# Altium integrated library Analog Devices Data Converters Analog-to-Digital Converters.IntLib: 2404 symbols (part 94 of 346)
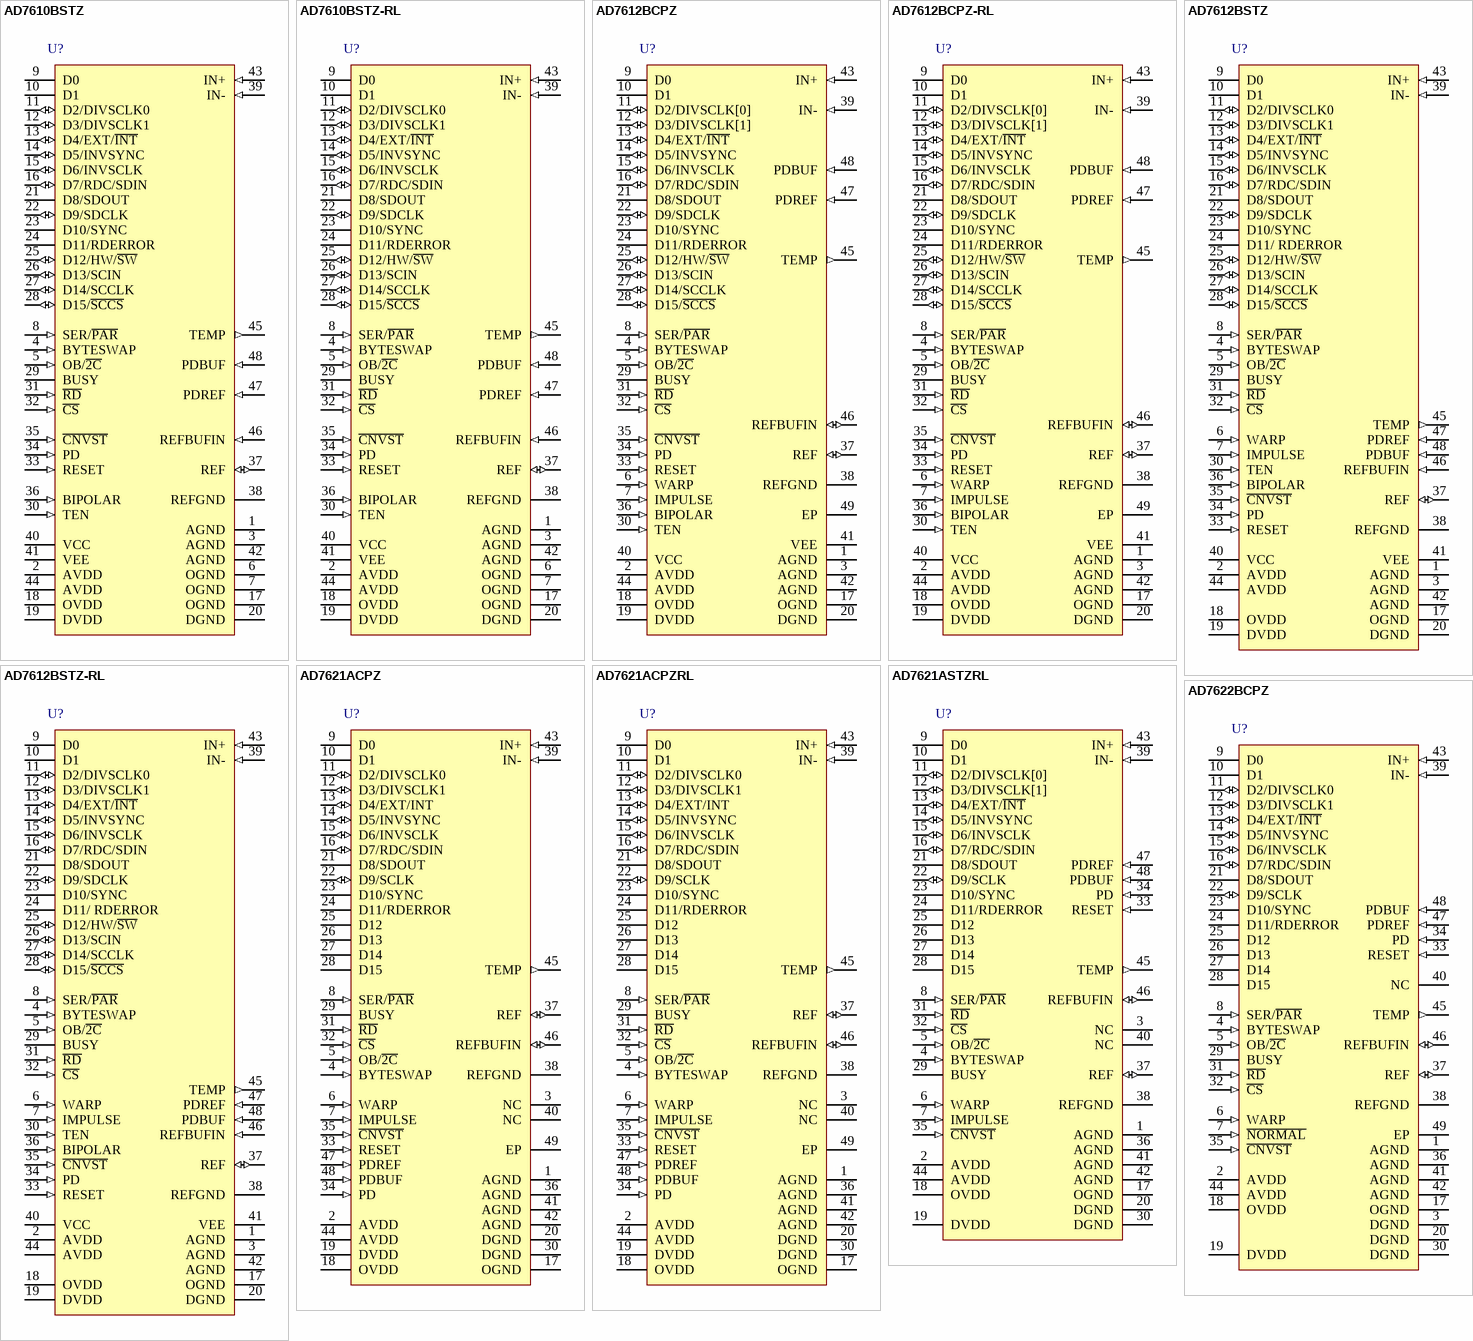
[diagram p207: symbols AD7610BSTZ to AD7622BCPZ]

## AD7621ACPZRL
designator U?
Single 16-Bit PulSAR Analog-to-Digital Converter with Byte, Parallel, Serial, SPI Interface, 3MSPS, -40 to +85 degC, CP-48-1, Pb-Free, Reel; Generic Part Number: AD7621; Manufacturer: Analog Devices; PartNumber: AD7621ACPZRL; Resolution (Bits): 16; Channels: 1; Throughput Rate (SPS): 3M; Interface: Byte, Par, Ser, SPI; DatasheetVersion: Rev.0; PackageVersion: Jan-2005; PackageReference: CP-48-1; PackageDescription: 48-Lead Lead Frame Chip Scale Package [LFCSP_VQ] 7 x 7 mm Body, Very Thin Quad; Supplier 1: Digi-Key; Supplier Part Number 1: AD7621ACPZRL-ND; Supplier 2: Mouser; Supplier Part Number 2: 584-AD7621ACPZR; RoHS: Y; Packing: Reel; Mounting Technology: Surface Mount; Code_JEDEC: MO-220-VKKD-2; ComponentLink1Description: Manufacturer URL; ComponentLink1URL: http://www.analog.com/en/index.html; ComponentLink2Description: Datasheet; ComponentLink2URL: http://www.analog.com/static/imported-files/data_sheets/AD7621.pdf; ComponentLink3Description: Package Specification; ComponentLink3URL: http://www.analog.com/static/imported-files/packages/PKG_PDF/LFCSP(CP)/CP-48/CP_48_1.pdf; ComponentLink4Description: Product URL; ComponentLink4URL: http://www.analog.com/en/analog-to-digital-converters/ad-converters/ad7621/products/product.html
footprint CP-48-1_N (QFN, 48-Leads, Body 7x7mm, Pitch 0.5mm, Thermal Pad 5.1x5.1mm, IPC Medium Density)
footprint CP-48-1_L (QFN, 48-Leads, Body 7x7mm, Pitch 0.5mm, Thermal Pad 5.1x5.1mm, IPC High Density)
footprint CP-48-1_M (QFN, 48-Leads, Body 7x7mm, Pitch 0.5mm, Thermal Pad 5.1x5.1mm, IPC Low Density)
pins: 1 AGND (power) "Analog Power Ground Pin.", 2 AVDD (power) "Input Analog Power Pins. Nominally 2.5 V.", 3 NC "No Connect.", 4 BYTESWAP (in) "Parallel Mode Selection (8-Bit/16-Bit). When high, the LSB is output on D[15:8] and the MSB is output on D[7:0]; when low, the LSB is output on D[7:0] and the MSB is output on D[15:8].", 5 OB/~{2C} (in) "Straight Binary/Binary Twos Complement Output. When high, the digital output is straight binary; when low, the MSB is inverted resulting in a twos complement output from its internal shift register.", 6 WARP (in) "Conversion Mode Selection. When WARP = high and IMPULSE = high, this selects wideband mode with slightly improved linearity and THD. When WARP = high and IMPULSE = low, this selects warp mode. In either mode, these are the (See Datasheet)", 7 IMPULSE (in) "Conversion Mode Selection. When IMPULSE = high and WARP = low, this input selects impulse mode, a reduced power mode. In this mode, the power dissipation is approximately proportional to the sampling rate.", 8 SER/~{PAR} (in) "Serial/Parallel Selection Input. When high, the serial interface is selected and some bits of the data bus are used as a serial port; the remaining data bits are high impedance outputs. When SER/P\A\R\ = low, the parallel (See Datasheet)", 9 D0 (hiz) "Bit 0 and Bit 1 of the Parallel Port Data Output Bus.", 10 D1 (hiz) "Bit 0 and Bit 1 of the Parallel Port Data Output Bus.", 11 D2/DIVSCLK0 (io) "When SER/P\A\R\ = low, these outputs are used as Bit 2 and Bit 3 of the parallel port data output bus. When SER/P\A\R\ = high, serial clock division selection. When using serial master read after convert mode (EXT/I\N\T\ = (See Datasheet)", 12 D3/DIVSCLK1 (io) "When SER/P\A\R\ = low, these outputs are used as Bit 2 and Bit 3 of the parallel port data output bus. When SER/P\A\R\ = high, serial clock division selection. When using serial master read after convert mode (EXT/I\N\T\ = (See Datasheet)", 13 D4/EXT/INT (io) "When SER/P\A\R\ = low, this output is used as Bit 4 of the parallel port data output bus. When SER/P\A\R\ = high, serial clock source select. This input is used to select the internally generated (master ) or external (See Datasheet)", 14 D5/INVSYNC (io) "When SER/P\A\R\ = low this output is used as Bit 5 of the parallel port data output bus. When SER/P\A\R\ = high, invert sync select. In serial master mode (EXT/I\N\T\ = low), this input is used to select the active state of (See Datasheet)", 15 D6/INVSCLK (io) "When SER/P\A\R\ = low this output is used as Bit 6 of the parallel port data output bus. Invert SCLK Select. In all serial modes, this input is used to invert the SCLK signal.", 16 D7/RDC/SDIN (io) "Bit 7 of the Parallel Port Data Output Bus. When SER/P\A\R\ = high, read during convert. When using Serial Master mode (EXT/I\N\T\ = low), RDC is used to select the read mode. When RDC = high, the previous conversion result (See Datasheet)", 17 OGND (power) "Input/Output Interface Digital Power Ground.", 18 OVDD (power) "Input/Output Interface Digital Power. Nominally at the same supply as the supply of the host interface (2.5 V or 3 V).", 19 DVDD (power) "Digital Power. Nominally at 2.5 V.", 20 DGND (power) "Digital Power Ground.", 21 D8/SDOUT (hiz) "When SER/P\A\R\ = low this output is used as Bit 8 of the parallel port data output bus. When SER/P\A\R\ = high, serial data output. In serial mode, this pin is used as the serial data output synchronized to SCLK. Conversion (See Datasheet)", 22 D9/SCLK (io) "Parallel Port Data Output Bus Bit 9. When SER/P\A\R\ = low, this output is used as Bit 9 of the parallel port data output bus. Serial Clock. When SER/P\A\R\ = high, serial clock. In all serial modes, this pin is used as the (See Datasheet)", 23 D10/SYNC (hiz) "When SER/P\A\R\ = low, this output is used as Bit 10 of the parallel port data output bus. When SER/P\A\R\ = high, frame synchronization. In serial master mode (EXT/I\N\T\= low), this output is used as a digital output frame (See Datasheet)", 24 D11/RDERROR (hiz) "Parallel Port Data Output Bus Bit 11. When SER/P\A\R\ = low, this output is used as Bit 11 of the parallel port data output bus. Read Error. When SER/P\A\R\ = high, read error. In serial slave mode (EXT/I\N\T\ = high), this (See Datasheet)", 25 D12 (hiz) "Bit 12 to Bit 15 of the Parallel Port Data Output Bus.", 26 D13 (hiz) "Bit 12 to Bit 15 of the Parallel Port Data Output Bus.", 27 D14 (hiz) "Bit 12 to Bit 15 of the Parallel Port Data Output Bus.", 28 D15 (hiz) "Bit 12 to Bit 15 of the Parallel Port Data Output Bus.", 29 BUSY (hiz) "Busy Output. Transitions high when a conversion is started, and remains high until the conversion is complete and the data is latched into the on-chip shift register. The falling edge of BUSY can be used as a data ready (See Datasheet)", 30 DGND (power) "Digital Power Ground.", 31 ~{RD} (in) "Read Data. When C\S\ and R\D\ are both low, the interface parallel or serial output bus is enabled.", 32 ~{CS} (in) "Chip Select. When C\S\ and R\D\ are both low, the interface parallel or serial output bus is enabled. C\S\ is also used to gate the external clock in slave serial mode.", 33 RESET (in) "Reset Input. When high, reset the AD7621. Current conversion if any is aborted. Falling edge of RESET enables the calibration mode indicated by pulsing BUSY high. Refer to the Digital Interface section. If not used, this pin (See Datasheet)", 34 PD (in) "Power-Down Input. When high, power down the ADC. Power consumption is reduced and conversions are inhibited after the current one is completed.", 35 ~{CNVST} (in) "Conversion Start. A falling edge on C\N\V\S\T\ puts the internal sample-and-hold into the hold state and initiates a conversion.", 36 AGND (power) "Analog Power Ground Pin.", 37 REF (io) "Reference Output/Input. When PDREF/PDBUF = low, the internal reference and buffer are enabled producing 2.048 V on this pin. When PDREF/PDBUF = high, the internal reference and buffer are disabled allowing an externally (See Datasheet)", 38 REFGND (power) "Reference Input Analog Ground.", 39 IN- (in) "Differential Negative Analog Input.", 40 NC "No Connect.", 41 AGND (power) "Analog Power Ground Pin.", 42 AGND (power) "Analog Power Ground Pin.", 43 IN+ (in) "Differential Positive Analog Input.", 44 AVDD (power) "Input Analog Power Pins. Nominally 2.5 V.", 45 TEMP (out) "Temperature Sensor Analog Output.", 46 REFBUFIN (io) "Internal Reference Output/Reference Buffer Input. When PDREF/PDBUF = low, the internal reference and buffer are enabled producing the 1.2 V (typical) bandgap output on this pin, which needs external decoupling. The internal (See Datasheet)", 47 PDREF (in) "Internal Reference Power-Down Input. When low, the internal reference is enabled. When high, the internal reference is powered down and an external reference must been used.", 48 PDBUF (in) "Internal Reference Buffer Power-Down Input. When low, the buffer is enabled (must be low when using internal reference). When high, the buffer is powered-down.", 49 EP (power) "Paddle connected to gnd. This connection is not required to meet the electrical performances."

## AD7621ASTZRL
designator U?
Single 16-Bit PulSAR Analog-to-Digital Converter with Byte, Parallel, Serial, SPI Interface, 3MSPS, -40 to +85 degC, ST-48, Pb-Free, Reel; Generic Part Number: AD7621; Manufacturer: Analog Devices; PartNumber: AD7621ASTZRL; Resolution (Bits): 16; Channels: 1; Throughput Rate (SPS): 3M; Interface: Byte, Par, Ser, SPI; DatasheetVersion: Rev.0; PackageVersion: revA; PackageReference: ST-48; PackageDescription: 48-Pin Thin Quad Flat Pack 0.5 mm Pitch; Supplier 1: Digi-Key; Supplier Part Number 1: AD7621ASTZRL-ND; Supplier 2: Newark; Supplier Part Number 2: 59K5112; Supplier 3: Mouser; Supplier Part Number 3: 584-AD7621ASTZR; RoHS: Y; Packing: Reel; Mounting Technology: Surface Mount; ComponentLink1Description: Manufacturer URL; ComponentLink1URL: http://www.analog.com/en/index.html; ComponentLink2Description: Datasheet; ComponentLink2URL: http://www.analog.com/static/imported-files/data_sheets/AD7621.pdf; ComponentLink3Description: Package Specification; ComponentLink3URL: http://www.analog.com/static/imported-files/packages/PKG_PDF/LQFP%28ST%29/ST_48.pdf; ComponentLink4Description: Product URL; ComponentLink4URL: http://www.analog.com/en/analog-to-digital-converters/ad-converters/ad7621/products/product.html
footprint ST-48_N (Thin QFP, 48-Leads, Body 7x7mm, Pitch 0.5mm, IPC Medium Density)
footprint ST-48_L (Thin QFP, 48-Leads, Body 7x7mm, Pitch 0.5mm, IPC High Density)
footprint ST-48_M (Thin QFP, 48-Leads, Body 7x7mm, Pitch 0.5mm, IPC Low Density)
pins: 1 AGND (power) "Analog Power Ground Pin.", 2 AVDD (power) "Input Analog Power Pins. Nominally 2.5 V.", 3 NC "No Connect.", 4 BYTESWAP (in) "Parallel Mode Selection (8-Bit/16-Bit). When high, the LSB is output on D[15:8] and the MSB is output on D[7:0]; when low, the LSB is output on D[7:0] and the MSB is output on D[15:8].", 5 OB/~{2C} (in) "Straight Binary/Binary Twos Complement Output. When high, the digital output is straight binary; when low, the MSB is inverted resulting in a twos complement output from its internal shift register.", 6 WARP (in) "Conversion Mode Selection. When WARP = high and IMPULSE = high, this selects wideband mode with slightly improved linearity and THD. When WARP = high and IMPULSE = low, this selects warp mode. In either mode, these are the (See Datasheet)", 7 IMPULSE (in) "Conversion Mode Selection. When IMPULSE = high and WARP = low, this input selects impulse mode, a reduced power mode. In this mode, the power dissipation is approximately proportional to the sampling rate.", 8 SER/~{PAR} (in) "Serial/Parallel Selection Input. When high, the serial interface is selected and some bits of the data bus are used as a serial port; the remaining data bits are high impedance outputs. When SER/PAR = low, the parallel port (See Datasheet)", 9 D0 (hiz) "Bit 0 of the Parallel Port Data Output Bus.", 10 D1 (hiz) "Bit 1 of the Parallel Port Data Output Bus.", 11 D2/DIVSCLK[0] (io) "When SER/P\A\R\= low, these outputs are used as Bit 2 and Bit 3 of the parallel port data output bus.When SER/P\A\R\ = high, serial clock division selection. When using serial master read after convert mode (EXT/I\N\T\ = (See Datasheet)", 12 D3/DIVSCLK[1] (io) "When SER/P\A\R\= low, these outputs are used as Bit 2 and Bit 3 of the parallel port data output bus.When SER/P\A\R\ = high, serial clock division selection. When using serial master read after convert mode (EXT/I\N\T\ = (See Datasheet)", 13 D4/EXT/~{INT} (io) "When SER/P\A\R\ = low, this output is used as Bit 4 of the parallel port data output bus.  When SER/P\A\R\ = high, serial clock source select. This input is used to select the internally generated (master ) or external (See Datasheet)", 14 D5/INVSYNC (io) "When SER/P\A\R\ = low this output is used as Bit 5 of the parallel port data output bus.When SER/P\A\R\ = high, invert sync select. In serial master mode (EXT/I\N\T\ = low), this input is used to select the active state of (See Datasheet)", 15 D6/INVSCLK (io) "When SER/P\A\R\ = low this output is used as Bit 6 of the parallel port data output bus. Invert SCLK Select. In all serial modes, this input is used to invert the SCLK signal.", 16 D7/RDC/SDIN (io) "Bit 7 of the Parallel Port Data Output Bus.  When SER/P\A\R\= high, read during convert. When using Serial Master mode (EXT/I\N\T\ = low), RDC is used to select the read mode When RDC = high, the previous conversion result (See Datasheet)", 17 OGND (power) "Input/Output Interface Digital Power Ground.", 18 OVDD (power) "Input/Output Interface Digital Power. Nominally at the same supply as the supply of the host interface (2.5 V or 3 V).", 19 DVDD (power) "Digital Power. Nominally at 2.5 V.", 20 DGND (power) "Digital Power Ground.", 21 D8/SDOUT (hiz) "When SER/P\A\R\ = low this output is used as Bit 8 of the parallel port data output bus. When SER/P\A\R\ = high, serial data output. In serial mode, this pin is used as the serial data output synchronized to SCLK. Conversion (See Datasheet)", 22 D9/SCLK (io) "Parallel Port Data Output Bus Bit 9. When SER/P\A\R\ = low, this output is used as Bit 9 of the parallel port data output bus.Serial Clock. When SER/P\A\R\ = high, serial clock. In all serial modes, this pin is used as the (See Datasheet)", 23 D10/SYNC (hiz) "When SER/P\A\R\ = low, this output is used as Bit 10 of the parallel port data output bus.When SER/P\A\R\ = high, frame synchronization. In serial master mode (EXT/I\N\T\= low), this output is used as a digital output frame (See Datasheet)", 24 D11/RDERROR (hiz) "Parallel Port Data Output Bus Bit 11. When SER/P\A\R\ = low, this output is used as Bit 11 of the parallel port data output bus.Read Error. When SER/P\A\R\ = high, read error. In serial slave mode (EXT/I\N\T\ = high), this (See Datasheet)", 25 D12 (hiz) "Bit 12 to Bit 15 of the Parallel Port Data Output Bus.", 26 D13 (hiz) "Bit 12 to Bit 15 of the Parallel Port Data Output Bus.", 27 D14 (hiz) "Bit 12 to Bit 15 of the Parallel Port Data Output Bus.", 28 D15 (hiz) "Bit 12 to Bit 15 of the Parallel Port Data Output Bus.", 29 BUSY (hiz) "Busy Output. Transitions high when a conversion is started, and remains high until the conversion is complete and the data is latched into the on-chip shift register. The falling edge of BUSY can be used as a data ready (See Datasheet)", 30 DGND (power) "Digital Power Ground.", 31 ~{RD} (in) "Read Data. When C\S\ and R\D\ are both low, the interface parallel or serial output bus is enabled.", 32 ~{CS} (in) "Chip Select. When C\S\ and R\D\ are both low, the interface parallel or serial output bus is enabled. C\S\ is also used to gate the external clock in slave serial mode.", 33 RESET (in) "Reset Input. When high, reset the AD7621. Current conversion if any is aborted. Falling edge of RESET enables the calibration mode indicated by pulsing BUSY high. Refer to the Digital Interface section. If not used, this pin (See Datasheet)", 34 PD (in) "Power-Down Input. When high, power down the ADC. Power consumption is reduced and conversions are inhibited after the current one is completed.", 35 ~{CNVST} (in) "Conversion Start. A falling edge on C\N\V\S\T\ puts the internal sample-and-hold into the hold state and initiates a conversion.", 36 AGND (power) "Analog Power Ground Pin.", 37 REF (io) "Reference Output/Input. When PDREF/PDBUF = low, the internal reference and buffer are enabled producing 2.048 V on this pin. When PDREF/PDBUF = high, the internal reference and buffer are disabled allowing an externally (See Datasheet)", 38 REFGND (power) "Reference Input Analog Ground.", 39 IN- (in) "Differential Positive Analog Input.", 40 NC "No Connect.", 41 AGND (power) "Analog Power Ground Pin.", 42 AGND (power) "Analog Power Ground Pin.", 43 IN+ (in) "Differential Positive Analog Input.", 44 AVDD (power) "Input Analog Power Pins. Nominally 2.5 V.", 45 TEMP (out) "Temperature Sensor Analog Output.", 46 REFBUFIN (io) "Internal Reference Output/Reference Buffer Input When PDREF/PDBUF = low, the internal reference and buffer are enabled producing the 1.2 V (typical) bandgap output on this pin, which needs external decoupling. The internal (See Datasheet)", 47 PDREF (in) "Internal Reference Power-Down Input.When low, the internal reference is enabled.When high, the internal reference is powered down and an external reference must been used.", 48 PDBUF (in) "Internal Reference Buffer Power-Down Input. When low, the buffer is enabled (must be low when using internal reference). When high, the buffer is powered-down."

## AD7622BCPZ
designator U?
Single 16-Bit PulSAR Analog-to-Digital Converter with Byte, Parallel, Serial, SPI Interface, 2MSPS, -40 to +85 degC, CP-48-1, Pb-Free, Tray; Generic Part Number: AD7622; Manufacturer: Analog Devices; PartNumber: AD7622BCPZ; Resolution (Bits): 16; Channels: 1; Throughput Rate (SPS): 2M; Interface: Byte, Par, Ser, SPI; DatasheetVersion: Rev.0; PackageVersion: Jan-2005; PackageReference: CP-48-1; PackageDescription: 48-Lead Lead Frame Chip Scale Package [LFCSP_VQ] 7 x 7 mm Body, Very Thin Quad; Supplier 1: Digi-Key; Supplier Part Number 1: AD7622BCPZ-ND; Supplier 2: Newark; Supplier Part Number 2: 19M1191; Supplier 3: Mouser; Supplier Part Number 3: 584-AD7622BCPZ; RoHS: Y; Packing: Tray; Mounting Technology: Surface Mount; Code_JEDEC: MO-220-VKKD-2; ComponentLink1Description: Manufacturer URL; ComponentLink1URL: http://www.analog.com/en/index.html; ComponentLink2Description: Datasheet; ComponentLink2URL: http://www.analog.com/static/imported-files/data_sheets/AD7622.pdf; ComponentLink3Description: Package Specification; ComponentLink3URL: http://www.analog.com/static/imported-files/packages/PKG_PDF/LFCSP(CP)/CP-48/CP_48_1.pdf; ComponentLink4Description: Product URL; ComponentLink4URL: http://www.analog.com/en/analog-to-digital-converters/ad-converters/ad7622/products/product.html
footprint CP-48-1_N (QFN, 48-Leads, Body 7x7mm, Pitch 0.5mm, Thermal Pad 5.1x5.1mm, IPC Medium Density)
footprint CP-48-1_L (QFN, 48-Leads, Body 7x7mm, Pitch 0.5mm, Thermal Pad 5.1x5.1mm, IPC High Density)
footprint CP-48-1_M (QFN, 48-Leads, Body 7x7mm, Pitch 0.5mm, Thermal Pad 5.1x5.1mm, IPC Low Density)
pins: 1 AGND (power) "Analog Power Ground.", 2 AVDD (power) "Input Analog Power Pins. Nominally 2.5 V", 3 DGND (power) "Digital Power Ground.", 4 BYTESWAP (in) "Parallel Mode Selection (8-Bit/16-Bit). When high, the LSB is output on D[15:8] and the MSB is output  on D[7:0]; when low, the LSB is output on D[7:0] and the MSB is output on D[15:8].", 5 OB/~{2C} (in) "Straight Binary/Binary Twos Complement Output. When high, the digital output is straight binary;  when low, the MSB is inverted resulting in a twos complement output from its internal shift register.", 6 WARP (in) "Conversion Mode Selection. When WARP = high and N\O\R\M\A\L\ = high, this selects wideband warp mode with slightly improved linearity and THD. When WARP = high and N\O\R\M\A\L\ = low, this selects  warp mode. In either mode, (See Datasheet)", 7 ~{NORMAL} (in) "Conversion Mode Selection. When N\O\R\M\A\L\ = low and WARP = low, this input selects normal mode where full accuracy is maintained independent of the minimum conversion rate.", 8 SER/~{PAR} (in) "Serial/Parallel Selection Input. When SER/P\A\R\ = high, the serial interface is selected and some bits of the data bus are used as a  serial port; the remaining data bits are high impedance outputs. When SER/P\A\R\ = low, (See Datasheet)", 9 D0 (hiz) "Bit 0 of the Parallel Port Data Output Bus. These pins are always outputs, regardless of  the interface mode.", 10 D1 (hiz) "Bit 1 of the Parallel Port Data Output Bus. These pins are always outputs, regardless of  the interface mode.", 11 D2/DIVSCLK0 (io) "When SER/P\A\R\ = low, these outputs are used as Bit 2 of the parallel port data output bus. When SER/P\A\R\ = high, serial clock division selection. When using serial master read after convert mode (EXT/I\N\T\ = low, (See Datasheet)", 12 D3/DIVSCLK1 (io) "When SER/P\A\R\ = low, these outputs are used as Bit 3 of the parallel port data output bus. When SER/P\A\R\ = high, serial clock division selection. When using serial master read after convert mode (EXT/I\N\T\ = low, (See Datasheet)", 13 D4/EXT/~{INT} (io) "When SER/P\A\R\ = low, this output is used as Bit 4 of the parallel port data output bus.  When SER/P\A\R\ = high, serial clock source select. This input is used to select the internally generated (master) or external (See Datasheet)", 14 D5/INVSYNC (io) "When SER/P\A\R\ = low, this output is used as Bit 5 of the parallel port data output bus. When SER/P\A\R\ = high, invert sync select. In serial master mode (EXT/I\N\T\ = low), this input is used  to select the active state (See Datasheet)", 15 D6/INVSCLK (io) "When SER/P\A\R\ = low, this output is used as Bit 6 of the parallel port data output bus. When SER/P\A\R\ = high, invert SCLK select. In all serial modes, this input is used to  invert the SCLK signal.", 16 D7/RDC/SDIN (io) "When SER/P\A\R\ = low, this output is used as bit 7 of the parallel port data output bus.  When SER/P\A\R\ = high, read during convert. When using serial master mode (EXT/I\N\T\ = low),  RDC is used to select the read mode. (See Datasheet)", 17 OGND (power) "Input/Output Interface Digital Power Ground.", 18 OVDD (power) "Input/Output Interface Digital Power. Nominally at the same supply as the supply of the  host interface (2.5 V or 3 V).", 19 DVDD (power) "Digital Power. Nominally at 2.5 V.", 20 DGND (power) "Digital Power Ground.", 21 D8/SDOUT (hiz) "When SER/P\A\R\ = low, this output is used as Bit 8 of the parallel port data output bus. When SER/P\A\R\ = high, serial data output. In serial mode, this pin is used as the serial data output synchronized to SCLK. (See Datasheet)", 22 D9/SCLK (io) "When SER/P\A\R\ = low, this output is used as Bit 9 of the parallel port data output bus. When SER/P\A\R\ = high, serial clock. In all serial modes, this pin is used as the serial  data clock input or output, depending upon (See Datasheet)", 23 D10/SYNC (hiz) "When SER/P\A\R\ = low, this output is used as Bit 10 of the parallel port data output bus. When SER/P\A\R\ = high, frame synchronization. In serial master mode (EXT/I\N\T\= low),  this output is used as a digital output (See Datasheet)", 24 D11/RDERROR (hiz) "When SER/P\A\R\ = low, this output is used as Bit 11 of the parallel port data output bus. When SER/P\A\R\ = high, read error. In serial slave mode (EXT/I\N\T\ = high), this output  is used as an incomplete read error flag. (See Datasheet)", 25 D12 (hiz) "Bit 12 of the parallel port data output bus. These pins are always outputs, regardless of  the interface mode.", 26 D13 (hiz) "Bit 13 of the parallel port data output bus. These pins are always outputs, regardless of  the interface mode.", 27 D14 (hiz) "Bit 14 of the parallel port data output bus. These pins are always outputs, regardless of  the interface mode.", 28 D15 (hiz) "Bit 15 of the parallel port data output bus. These pins are always outputs, regardless of  the interface mode.", 29 BUSY (hiz) "Busy Output. Transitions high when a conversion is started and remains high until the conversion  is complete and the data is latched into the on-chip shift register. The falling edge of BUSY can be  used as a data-ready (See Datasheet)", 30 DGND (power) "Digital Power Ground.", 31 ~{RD} (in) "Read Data. When C\S\ and R\D\ are both low, the interface parallel or serial output bus is enabled.", 32 ~{CS} (in) "Chip Select. When C\S\ and R\D\ are both low, the interface parallel or serial output bus is enabled.  C\S\ is also used to gate the external clock in slave serial mode.", 33 RESET (in) "Reset Input. When high, resets the AD7622. Current conversion, if any, is aborted. Falling edge of  RESET enables the calibration mode indicated by pulsing BUSY high. Refer to the RESET section.  If not used, this pin can be (See Datasheet)", 34 PD (in) "Power-Down Input. When high, power downs the ADC. Power consumption is reduced and  conversions are inhibited after the current one is completed.", 35 ~{CNVST} (in) "Conversion Start. A falling edge on C\N\V\S\T\ puts the internal sample-and-hold into the hold state  and initiates a conversion.", 36 AGND (power) "Analog Power Ground.", 37 REF (io) "Reference Output/Input.  When PDREF/PDBUF = low, the internal reference and buffer are enabled producing 2.048 V on this pin. When PDREF/PDBUF = high, the internal reference and buffer are disabled allowing an externally  (See Datasheet)", 38 REFGND (power) "Reference Input Analog Ground.", 39 IN- (in) "Differential Negative Analog Input.", 40 NC "No Connect.", 41 AGND (power) "Analog Power Ground.", 42 AGND (power) "Analog Power Ground.", 43 IN+ (in) "Differential Positive Analog Input.", 44 AVDD (power) "Input Analog Power Pins. Nominally 2.5 V", 45 TEMP (out) "Temperature Sensor Analog Output. Normally, 278 mV @ 25degreesC with a temperature coefficient of 1 mV/degreesC. This pin can be used to measure the temperature of the AD7622. See the  Temperature Sensor section.", 46 REFBUFIN (io) "Internal Reference Output/Reference Buffer Input. When PDREF/PDBUF = low, the internal reference and buffer are enabled producing the 1.2 V (typical) band gap output on this pin, which needs external decoupling. The internal (See Datasheet)", 47 PDREF (in) "Internal Reference Power-Down Input. When low, the internal reference is enabled. When high, the internal reference is powered down and an external reference must been used.", 48 PDBUF (in) "Internal Reference Buffer Power-Down Input. When low, the buffer is enabled (must be low when using internal reference). When high, the buffer is powered-down.", 49 EP (power) "Exposed pad."

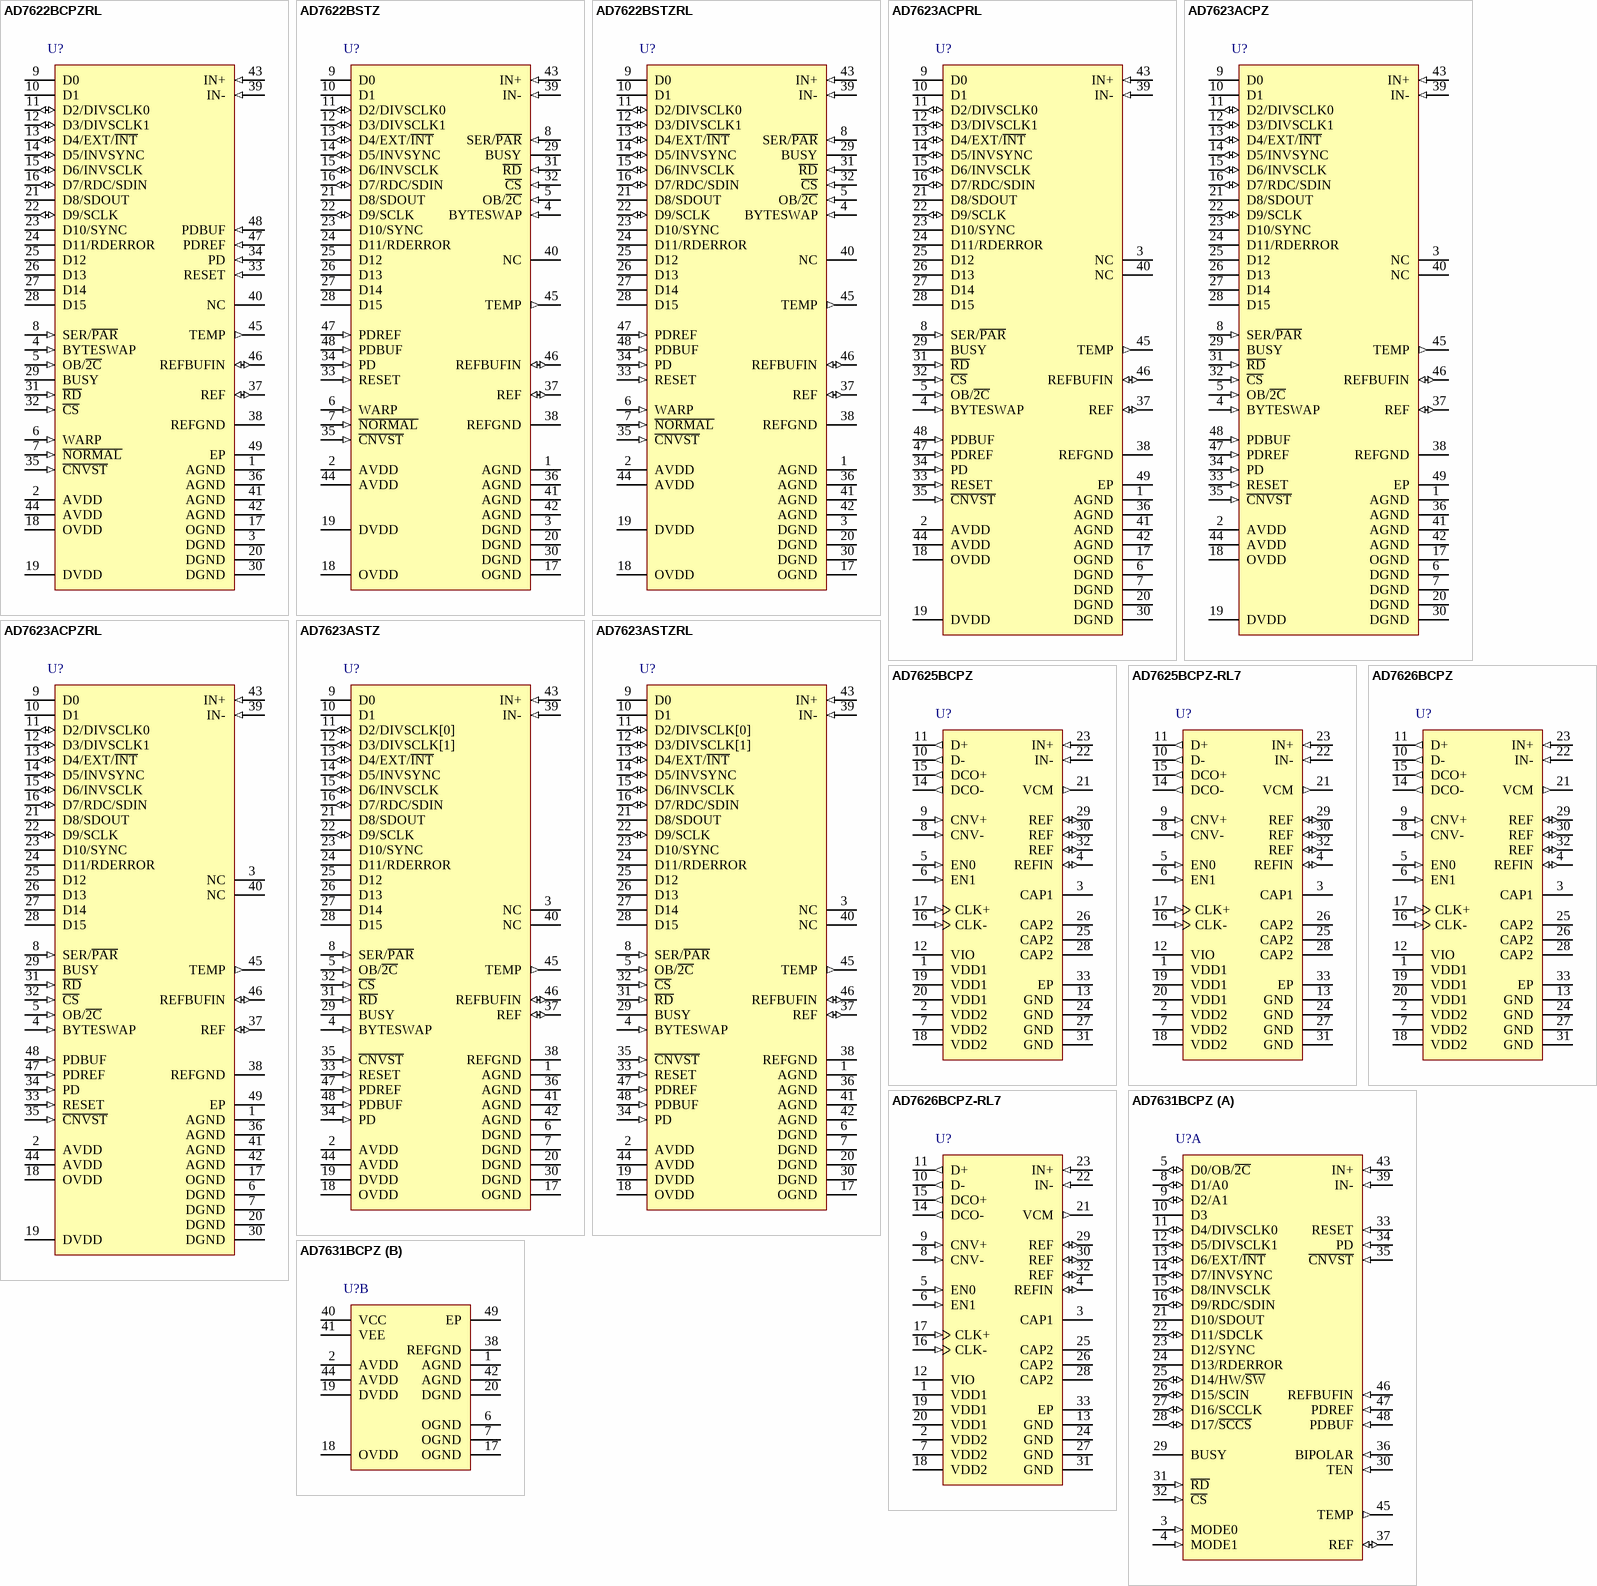
[diagram p31: symbols AD7622BCPZRL to AD7631BCPZ]

## AD7622BCPZRL
designator U?
Single 16-Bit PulSAR Analog-to-Digital Converter with Byte, Parallel, Serial, SPI Interface, 2MSPS, -40 to +85 degC, CP-48-1, Pb-Free, Reel; Generic Part Number: AD7622; Manufacturer: Analog Devices; PartNumber: AD7622BCPZRL; Resolution (Bits): 16; Channels: 1; Throughput Rate (SPS): 2M; Interface: Byte, Par, Ser, SPI; DatasheetVersion: Rev.0; PackageVersion: Jan-2005; PackageReference: CP-48-1; PackageDescription: 48-Lead Lead Frame Chip Scale Package [LFCSP_VQ] 7 x 7 mm Body, Very Thin Quad; Supplier 1: Digi-Key; Supplier Part Number 1: AD7622BCPZRL-ND; Supplier 2: Mouser; Supplier Part Number 2: 584-AD7622BCPZR; RoHS: Y; Packing: Reel; Mounting Technology: Surface Mount; Code_JEDEC: MO-220-VKKD-2; ComponentLink1Description: Manufacturer URL; ComponentLink1URL: http://www.analog.com/en/index.html; ComponentLink2Description: Datasheet; ComponentLink2URL: http://www.analog.com/static/imported-files/data_sheets/AD7622.pdf; ComponentLink3Description: Package Specification; ComponentLink3URL: http://www.analog.com/static/imported-files/packages/PKG_PDF/LFCSP(CP)/CP-48/CP_48_1.pdf; ComponentLink4Description: Product URL; ComponentLink4URL: http://www.analog.com/en/analog-to-digital-converters/ad-converters/ad7622/products/product.html
footprint CP-48-1_N (QFN, 48-Leads, Body 7x7mm, Pitch 0.5mm, Thermal Pad 5.1x5.1mm, IPC Medium Density)
footprint CP-48-1_L (QFN, 48-Leads, Body 7x7mm, Pitch 0.5mm, Thermal Pad 5.1x5.1mm, IPC High Density)
footprint CP-48-1_M (QFN, 48-Leads, Body 7x7mm, Pitch 0.5mm, Thermal Pad 5.1x5.1mm, IPC Low Density)
pins: 1 AGND (power) "Analog Power Ground.", 2 AVDD (power) "Input Analog Power Pins. Nominally 2.5 V", 3 DGND (power) "Digital Power Ground.", 4 BYTESWAP (in) "Parallel Mode Selection (8-Bit/16-Bit). When high, the LSB is output on D[15:8] and the MSB is output  on D[7:0]; when low, the LSB is output on D[7:0] and the MSB is output on D[15:8].", 5 OB/~{2C} (in) "Straight Binary/Binary Twos Complement Output. When high, the digital output is straight binary;  when low, the MSB is inverted resulting in a twos complement output from its internal shift register.", 6 WARP (in) "Conversion Mode Selection. When WARP = high and N\O\R\M\A\L\ = high, this selects wideband warp mode with slightly improved linearity and THD. When WARP = high and N\O\R\M\A\L\ = low, this selects  warp mode. In either mode, (See Datasheet)", 7 ~{NORMAL} (in) "Conversion Mode Selection. When N\O\R\M\A\L\ = low and WARP = low, this input selects normal mode where full accuracy is maintained independent of the minimum conversion rate.", 8 SER/~{PAR} (in) "Serial/Parallel Selection Input. When SER/P\A\R\ = high, the serial interface is selected and some bits of the data bus are used as a  serial port; the remaining data bits are high impedance outputs. When SER/P\A\R\ = low, (See Datasheet)", 9 D0 (hiz) "Bit 0 of the Parallel Port Data Output Bus. These pins are always outputs, regardless of  the interface mode.", 10 D1 (hiz) "Bit 1 of the Parallel Port Data Output Bus. These pins are always outputs, regardless of  the interface mode.", 11 D2/DIVSCLK0 (io) "When SER/P\A\R\ = low, these outputs are used as Bit 2 of the parallel port data output bus. When SER/P\A\R\ = high, serial clock division selection. When using serial master read after convert mode (EXT/I\N\T\ = low, (See Datasheet)", 12 D3/DIVSCLK1 (io) "When SER/P\A\R\ = low, these outputs are used as Bit 3 of the parallel port data output bus. When SER/P\A\R\ = high, serial clock division selection. When using serial master read after convert mode (EXT/I\N\T\ = low, (See Datasheet)", 13 D4/EXT/~{INT} (io) "When SER/P\A\R\ = low, this output is used as Bit 4 of the parallel port data output bus.  When SER/P\A\R\ = high, serial clock source select. This input is used to select the internally generated (master) or external (See Datasheet)", 14 D5/INVSYNC (io) "When SER/P\A\R\ = low, this output is used as Bit 5 of the parallel port data output bus. When SER/P\A\R\ = high, invert sync select. In serial master mode (EXT/I\N\T\ = low), this input is used  to select the active state (See Datasheet)", 15 D6/INVSCLK (io) "When SER/P\A\R\ = low, this output is used as Bit 6 of the parallel port data output bus. When SER/P\A\R\ = high, invert SCLK select. In all serial modes, this input is used to  invert the SCLK signal.", 16 D7/RDC/SDIN (io) "When SER/P\A\R\ = low, this output is used as bit 7 of the parallel port data output bus.  When SER/P\A\R\ = high, read during convert. When using serial master mode (EXT/I\N\T\ = low),  RDC is used to select the read mode. (See Datasheet)", 17 OGND (power) "Input/Output Interface Digital Power Ground.", 18 OVDD (power) "Input/Output Interface Digital Power. Nominally at the same supply as the supply of the  host interface (2.5 V or 3 V).", 19 DVDD (power) "Digital Power. Nominally at 2.5 V.", 20 DGND (power) "Digital Power Ground.", 21 D8/SDOUT (hiz) "When SER/P\A\R\ = low, this output is used as Bit 8 of the parallel port data output bus. When SER/P\A\R\ = high, serial data output. In serial mode, this pin is used as the serial data output synchronized to SCLK. (See Datasheet)", 22 D9/SCLK (io) "When SER/P\A\R\ = low, this output is used as Bit 9 of the parallel port data output bus. When SER/P\A\R\ = high, serial clock. In all serial modes, this pin is used as the serial  data clock input or output, depending upon (See Datasheet)", 23 D10/SYNC (hiz) "When SER/P\A\R\ = low, this output is used as Bit 10 of the parallel port data output bus. When SER/P\A\R\ = high, frame synchronization. In serial master mode (EXT/I\N\T\= low),  this output is used as a digital output (See Datasheet)", 24 D11/RDERROR (hiz) "When SER/P\A\R\ = low, this output is used as Bit 11 of the parallel port data output bus. When SER/P\A\R\ = high, read error. In serial slave mode (EXT/I\N\T\ = high), this output  is used as an incomplete read error flag. (See Datasheet)", 25 D12 (hiz) "Bit 12 of the parallel port data output bus. These pins are always outputs, regardless of  the interface mode.", 26 D13 (hiz) "Bit 13 of the parallel port data output bus. These pins are always outputs, regardless of  the interface mode.", 27 D14 (hiz) "Bit 14 of the parallel port data output bus. These pins are always outputs, regardless of  the interface mode.", 28 D15 (hiz) "Bit 15 of the parallel port data output bus. These pins are always outputs, regardless of  the interface mode.", 29 BUSY (hiz) "Busy Output. Transitions high when a conversion is started and remains high until the conversion  is complete and the data is latched into the on-chip shift register. The falling edge of BUSY can be  used as a data-ready (See Datasheet)", 30 DGND (power) "Digital Power Ground.", 31 ~{RD} (in) "Read Data. When C\S\ and R\D\ are both low, the interface parallel or serial output bus is enabled.", 32 ~{CS} (in) "Chip Select. When C\S\ and R\D\ are both low, the interface parallel or serial output bus is enabled.  C\S\ is also used to gate the external clock in slave serial mode.", 33 RESET (in) "Reset Input. When high, resets the AD7622. Current conversion, if any, is aborted. Falling edge of  RESET enables the calibration mode indicated by pulsing BUSY high. Refer to the RESET section.  If not used, this pin can be (See Datasheet)", 34 PD (in) "Power-Down Input. When high, power downs the ADC. Power consumption is reduced and  conversions are inhibited after the current one is completed.", 35 ~{CNVST} (in) "Conversion Start. A falling edge on C\N\V\S\T\ puts the internal sample-and-hold into the hold state  and initiates a conversion.", 36 AGND (power) "Analog Power Ground.", 37 REF (io) "Reference Output/Input.  When PDREF/PDBUF = low, the internal reference and buffer are enabled producing 2.048 V on this pin. When PDREF/PDBUF = high, the internal reference and buffer are disabled allowing an externally  (See Datasheet)", 38 REFGND (power) "Reference Input Analog Ground.", 39 IN- (in) "Differential Negative Analog Input.", 40 NC "No Connect.", 41 AGND (power) "Analog Power Ground.", 42 AGND (power) "Analog Power Ground.", 43 IN+ (in) "Differential Positive Analog Input.", 44 AVDD (power) "Input Analog Power Pins. Nominally 2.5 V", 45 TEMP (out) "Temperature Sensor Analog Output. Normally, 278 mV @ 25degreesC with a temperature coefficient of 1 mV/degreesC. This pin can be used to measure the temperature of the AD7622. See the  Temperature Sensor section.", 46 REFBUFIN (io) "Internal Reference Output/Reference Buffer Input. When PDREF/PDBUF = low, the internal reference and buffer are enabled producing the 1.2 V (typical) band gap output on this pin, which needs external decoupling. The internal (See Datasheet)", 47 PDREF (in) "Internal Reference Power-Down Input. When low, the internal reference is enabled. When high, the internal reference is powered down and an external reference must been used.", 48 PDBUF (in) "Internal Reference Buffer Power-Down Input. When low, the buffer is enabled (must be low when using internal reference). When high, the buffer is powered-down.", 49 EP (power) "Exposed pad."

## AD7622BSTZ
designator U?
Single 16-Bit PulSAR Analog-to-Digital Converter with Byte, Parallel, Serial, SPI Interface, 2MSPS, -40 to +85 degC, ST-48, Pb-Free, Tray; Generic Part Number: AD7622; Manufacturer: Analog Devices; PartNumber: AD7622BSTZ; Resolution (Bits): 16; Channels: 1; Throughput Rate (SPS): 2M; Interface: Byte, Par, Ser, SPI; DatasheetVersion: Rev.0; PackageVersion: revA; PackageReference: ST-48; PackageDescription: 48-Pin Thin Quad Flat Pack 0.5 mm Pitch; Supplier 1: Digi-Key; Supplier Part Number 1: AD7622BSTZ-ND; Supplier 2: Farnell; Supplier Part Number 2: 1274240; Supplier 3: Newark; Supplier Part Number 3: 19M1192; Supplier 4: Mouser; Supplier Part Number 4: 584-AD7622BSTZ; RoHS: Y; Packing: Tray; Mounting Technology: Surface Mount; ComponentLink1Description: Manufacturer URL; ComponentLink1URL: http://www.analog.com/en/index.html; ComponentLink2Description: Datasheet; ComponentLink2URL: http://www.analog.com/static/imported-files/data_sheets/AD7622.pdf; ComponentLink3Description: Package Specification; ComponentLink3URL: http://www.analog.com/static/imported-files/packages/PKG_PDF/LQFP%28ST%29/ST_48.pdf; ComponentLink4Description: Product URL; ComponentLink4URL: http://www.analog.com/en/analog-to-digital-converters/ad-converters/ad7622/products/product.html
footprint ST-48_N (Thin QFP, 48-Leads, Body 7x7mm, Pitch 0.5mm, IPC Medium Density)
footprint ST-48_L (Thin QFP, 48-Leads, Body 7x7mm, Pitch 0.5mm, IPC High Density)
footprint ST-48_M (Thin QFP, 48-Leads, Body 7x7mm, Pitch 0.5mm, IPC Low Density)
pins: 1 AGND (power) "Analog Power Ground.", 2 AVDD (power) "Input Analog Power Pins. Nominally 2.5 V.", 3 DGND (power) "Digital Power Ground.", 4 BYTESWAP (in) "Parallel Mode Selection (8-Bit/16-Bit). When high, the LSB is output on D[15:8] and the MSB is output on D[7:0]; when low, the LSB is output on D[7:0] and the MSB is output on D[15:8].", 5 OB/~{2C} (in) "Straight Binary/Binary Twos Complement Output. When high, the digital output is straight binary; when low, the MSB is inverted resulting in a twos complement output from its internal shift register.", 6 WARP (in) "Conversion Mode Selection. When WARP = high and N\O\R\M\A\L\ = high, this selects wideband warp mode with slightly improved linearity and THD. When WARP = high and N\O\R\M\A\L\ = low, this selects warp mode. In either mode, (See Datasheet)", 7 ~{NORMAL} (in) "Conversion Mode Selection. When N\O\R\M\A\L\ = low and WARP = low, this input selects normal mode where full accuracy is maintained independent of the minimum conversion rate.", 8 SER/~{PAR} (in) "Serial/Parallel Selection Input.When SER/P\A\R\ = high, the serial interface is selected and some bits of the data bus are used as a serial port; the remaining data bits are high impedance outputs.When SER/P\A\R\ = low, the (See Datasheet)", 9 D0 (hiz) "Bit 0 of the Parallel Port Data Output Bus. This pins are always outputs, regardless of the interface mode.", 10 D1 (hiz) "Bit 1 of the Parallel Port Data Output Bus. This pins are always outputs, regardless of the interface mode.", 11 D2/DIVSCLK0 (io) "When SER/P\A\R\ = low, this output is used as Bit 2 of the parallel port data output bus.When SER/P\A\R\ = high, serial clock division selection. When using serial master read after convert mode (EXT/I\N\T\ = low, RDC/SDIN = (See Datasheet)", 12 D3/DIVSCLK1 (io) "When SER/P\A\R\ = low, this output is used as Bit 3 of the parallel port data output bus.When SER/P\A\R\ = high, serial clock division selection. When using serial master read after convert mode (EXT/I\N\T\ = low, RDC/SDIN = (See Datasheet)", 13 D4/EXT/~{INT} (io) "When SER/P\A\R\ = low, this output is used as Bit 4 of the parallel port data output bus.When SER/P\A\R\ = high, serial clock source select. This input is used to select the internally generated (master) or external (slave) (See Datasheet)", 14 D5/INVSYNC (io) "When SER/P\A\R\ = low, this output is used as Bit 5 of the parallel port data output bus.When SER/P\A\R\ = high, invert sync select. In serial master mode (EXT/I\N\T\ = low), this input is used to select the active state of (See Datasheet)", 15 D6/INVSCLK (io) "When SER/P\A\R\ = low, this output is used as Bit 6 of the parallel port data output bus.When SER/P\A\R\ = high, invert SCLK select. In all serial modes, this input is used to invert the SCLK signal.", 16 D7/RDC/SDIN (io) "When SER/P\A\R\ = low, this output is used as bit 7 of the parallel port data output bus.When SER/P\A\R\ = high, read during convert. When using serial master mode (EXT/I\N\T\ = low), RDC is used to select the read mode.When (See Datasheet)", 17 OGND (power) "Input/Output Interface Digital Power Ground.", 18 OVDD (power) "Input/Output Interface Digital Power. Nominally at the same supply as the supply of the host interface (2.5 V or 3 V).", 19 DVDD (power) "Digital Power. Nominally at 2.5 V.", 20 DGND (power) "Digital Power Ground.", 21 D8/SDOUT (hiz) "When SER/P\A\R\ = low, this output is used as Bit 8 of the parallel port data output bus.When SER/P\A\R\ = high, serial data output. In serial mode, this pin is used as the serial data output synchronized to SCLK. Conversion (See Datasheet)", 22 D9/SCLK (io) "When SER/P\A\R\ = low, this output is used as Bit 9 of the parallel port data output bus.When SER/P\A\R\ = high, serial clock. In all serial modes, this pin is used as the serial data clock input or output, depending upon (See Datasheet)", 23 D10/SYNC (hiz) "When SER/P\A\R\ = low, this output is used as Bit 10 of the parallel port data output bus.When SER/P\A\R\ = high, frame synchronization. In serial master mode (EXT/I\N\T\= low), this output is used as a digital output frame (See Datasheet)", 24 D11/RDERROR (hiz) "When SER/P\A\R\ = low, this output is used as Bit 11 of the parallel port data output bus.When SER/P\A\R\ = high, read error. In serial slave mode (EXT/INT = high), this output is used as an incomplete read error flag. If a (See Datasheet)", 25 D12 (hiz) "Bit 12 of the parallel port data output bus. This pins are always outputs, regardless of the interface mode.", 26 D13 (hiz) "Bit 13 of the parallel port data output bus. This pins are always outputs, regardless of the interface mode.", 27 D14 (hiz) "Bit 14 of the parallel port data output bus. This pins are always outputs, regardless of the interface mode.", 28 D15 (hiz) "Bit 15 of the parallel port data output bus. This pins are always outputs, regardless of the interface mode.", 29 BUSY (hiz) "Busy Output. Transitions high when a conversion is started and remains high until the conversion is complete and the data is latched into the on-chip shift register. The falling edge of BUSY can be used as a data-ready clock (See Datasheet)", 30 DGND (power) "Digital Power Ground.", 31 ~{RD} (in) "Read Data. When C\S\ and R\D\ are both low, the interface parallel or serial output bus is enabled.", 32 ~{CS} (in) "Chip Select. When C\S\ and R\D\ are both low, the interface parallel or serial output bus is enabled. C\S\ is also used to gate the external clock in slave serial mode.", 33 RESET (in) "Reset Input. When high, resets the AD7622. Current conversion, if any, is aborted. Falling edge of RESET enables the calibration mode indicated by pulsing BUSY high. Refer to the RESET section. If not used, this pin can be (See Datasheet)", 34 PD (in) "Power-Down Input. When high, power downs the ADC. Power consumption is reduced and conversions are inhibited after the current one is completed.", 35 ~{CNVST} (in) "Conversion Start. A falling edge on C\N\V\S\T\ puts the internal sample-and-hold into the hold state and initiates a conversion.", 36 AGND (power) "Analog Power Ground.", 37 REF (io) "Reference Output/Input.When PDREF/PDBUF = low, the internal reference and buffer are enabled producing 2.048 V on this pin.When PDREF/PDBUF = high, the internal reference and buffer are disabled allowing an externally (See Datasheet)", 38 REFGND (power) "Reference Input Analog Ground.", 39 IN- (in) "Differential Negative Analog Input.", 40 NC "No Connect.", 41 AGND (power) "Analog Power Ground.", 42 AGND (power) "Analog Power Ground.", 43 IN+ (in) "Differential Positive Analog Input.", 44 AVDD (power) "Input Analog Power Pins. Nominally 2.5 V.", 45 TEMP (out) "Temperature Sensor Analog Output. Normally, 278 mV @ 25degreesC with a temperature coefficient of 1 mV/degreesC. This pin can be used to measure the temperature of the AD7622. See the Temperature Sensor section.", 46 REFBUFIN (io) "Internal Reference Output/Reference Buffer Input.When PDREF/PDBUF = low, the internal reference and buffer are enabled producing the 1.2 V (typical) band gap output on this pin, which needs external decoupling. The internal (See Datasheet)", 47 PDREF (in) "InternInternal Reference Power-Down Input.When low, the internal reference is enabled.When high, the internal reference is powered down and an external reference must been used.al Reference Power-Down Input.", 48 PDBUF (in) "Internal Reference Buffer Power-Down Input.When low, the buffer is enabled (must be low when using internal reference).When high, the buffer is powered-down."